# Altium footprint library CYUSB3314.PcbLib: 32 footprints (part 2 of 2)
Each footprint in its own frame and in the unit in brackets; x right, y up, seen from the top. Pads: shape width x height; smd on the part's side, far side on the other; paste and mask are expansions set on the pad; w line width, h text height; cw(c..) or ccw(c..) is an arc to the next point about the centre after c.
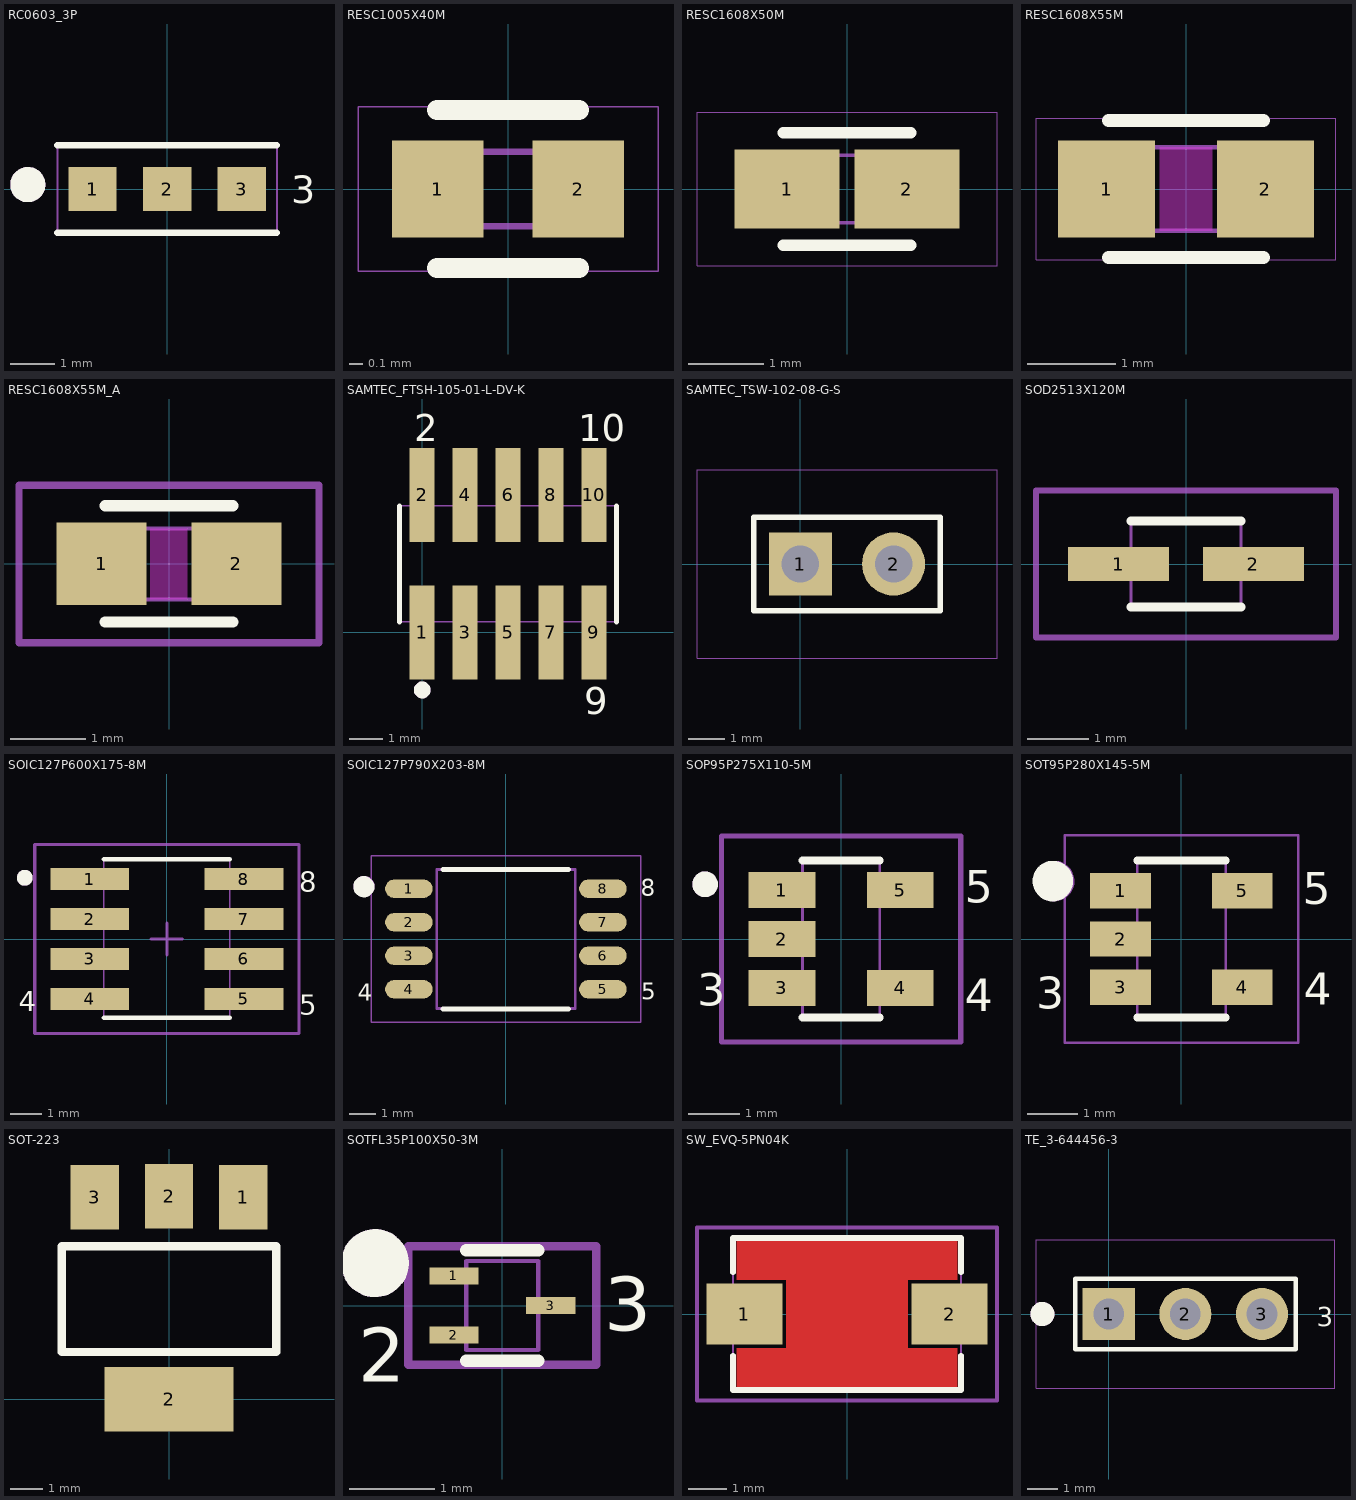
[diagram p1: the footprints below, top view; thin cyan lines are the x and y axes]

## RC0603_3P [mm]
height 2.388
pads (3):
  rect 1.1x1 smd mask+0.079: 1(-1.7,0) 2(0,0) 3(1.7,0)
Top Overlay:
  circle w0.4: c-3.175,0.1 r0.2
  lines w0.15: -2.5,-1 2.5,-1 ; -2.5,1 2.5,1
  text ".Designator" at -2.5,2 h0.64
  text "3" at 2.825,-0.325 h0.64
Mechanical 13:
  circle w0.4: c-3.175,0.1 r0.2
  lines w0.05: -2.5,-1 -2.5,1 2.5,1 2.5,-1 -2.5,-1
  text ".Designator" at -2.5,0 h0.64
Mechanical 14:
  text "RC0603_3P" at -2.5,3 h0.64
3D body: height 0, standoff 0, extent -2.499,-0.999 2.499,0.999

## RESC1005X40M [mm]
height 0.4
pads (2):
  rect 0.68x0.72 smd mask+0: 1(-0.52,0) 2(0.52,0)
Top Overlay:
  lines w0.15: -0.525,-0.585 0.525,-0.585 ; -0.525,0.585 0.525,0.585
  text ".Designator" at -4.117,1.111 h0.8
Mechanical 13:
  lines w0.05: -0.525,-0.275 -0.525,0.275 0.525,0.275 0.525,-0.275 -0.525,-0.275
  text ".Designator" at -3.929,-2.074 h0.8
Mechanical 14:
  text "RESC1005X40M" at -4.558,2.35 h0.8
  text "R68_72" at -2.332,-1.954 h0.8
Mechanical 15:
  lines w0.01: -1.11,-0.61 -1.11,0.61 1.11,0.61 1.11,-0.61 -1.11,-0.61
3D body: height 0.4, standoff 0, extent -0.55,-0.3 0.55,0.3

## RESC1608X50M [mm] "Chip Resistor, 2-Leads, Body 1.5x0.8mm, IPC Low Density"
height 0.5
pads (2):
  rect 1.4x1.05 smd mask+0: 1(-0.8,0) 2(0.8,0)
Top Overlay:
  lines w0.15: -0.85,-0.75 0.85,-0.75 ; -0.85,0.75 0.85,0.75
  text ".Designator" at -3.98,1.71 h0.8
Mechanical 13:
  lines w0.05: -0.85,-0.45 0.85,-0.45 0.85,0.45 -0.85,0.45 -0.85,-0.45
  text ".Designator" at -4.146,-0.319 h0.8
Mechanical 14:
  text "RESC1608X50M" at -4.13,2.972 h0.8
  text "R105_140" at -2.942,-2.822 h0.8
Mechanical 15:
  lines w0.01: -2,-1.025 2,-1.025 2,1.025 -2,1.025 -2,-1.025
3D body: height 0.5, standoff 0, extent -0.85,-0.45 0.85,0.45

## RESC1608X55M [mm]
height 0.55
pads (2):
  rect 1.1x1.1 smd mask+0: 1(-0.9,0) 2(0.9,0)
Top Layer keep-out:
  rectangle: -0.3,-0.475 0.3,0.475
Top Overlay:
  lines w0.15: -0.875,-0.775 0.875,-0.775 ; -0.875,0.775 0.875,0.775
  text ".Designator" at -3.93,1.311 h0.8
Mechanical 13:
  lines w0.05: -0.875,-0.475 -0.875,0.475 0.875,0.475 0.875,-0.475 -0.875,-0.475
  text ".Designator" at -4.025,-0.209 h0.8
Mechanical 14:
  text "RESC1608X55M" at -4.531,2.562 h0.8
  text "S110" at -1.175,-1.998 h0.8
Mechanical 15:
  lines w0.01: -1.7,-0.8 -1.7,0.8 1.7,0.8 1.7,-0.8 -1.7,-0.8
3D body: height 0.55, standoff 0, extent -0.874,-0.474 0.874,0.474

## RESC1608X55M_A [mm]
height 0.55
pads (2):
  rect 1.2x1.1 smd mask+0: 1(-0.9,0) 2(0.9,0)
Top Layer keep-out:
  rectangle: -0.25,-0.475 0.25,0.475
Top Overlay:
  lines w0.15: -0.85,-0.775 0.85,-0.775 ; -0.85,0.775 0.85,0.775
  text ".Designator" at -4.086,1.532 h0.8
Mechanical 13:
  lines w0.05: -0.85,-0.475 0.85,-0.475 0.85,0.475 -0.85,0.475 -0.85,-0.475
  text ".Designator" at -4.122,-0.16 h0.8
Mechanical 14:
  text "R120_110" at -2.781,-2.431 h0.8
  text "RESC1608X55M_A" at -5.021,2.642 h0.8
Mechanical 15:
  lines w0.1: -2,-1.05 2,-1.05 2,1.05 -2,1.05 -2,-1.05
3D body: height 0.55, standoff 0, extent -0.85,-0.475 0.85,0.475

## SAMTEC_FTSH-105-01-L-DV-K [mm]
height 5.715
pads (10):
  rect 0.74x2.79 smd mask+0: 1(0,0) 2(0,4.07) 3(1.27,0) 4(1.27,4.07) 5(2.54,0) 6(2.54,4.07) 7(3.81,0) 8(3.81,4.07) 9(5.08,0) 10(5.08,4.07)
Top Overlay:
  circle w0.25: c0.002,-1.702 r0.125
  lines w0.152: -0.673,0.318 -0.673,3.746 ; 5.753,0.318 5.753,3.746
  text ".Designator" at -1.346,6.782 h0.8
  text "2" at -0.229,5.664 h0.8
  text "9" at 4.801,-2.413 h0.8
  text "10" at 4.623,5.664 h0.8
Mechanical 13:
  circle w0.25: c0.002,-1.702 r0.125
  lines w0.051: -0.673,0.318 5.753,0.318 5.753,3.746 -0.673,3.746 -0.673,0.318
  text ".Designator" at -1.595,1.916 h0.8
Mechanical 14:
  text "R74_279" at -0.178,-3.531 h0.8
  text "SAMTEC_FTSH-105-01-L-DV-K" at -6.401,8.077 h0.8
3D body: height 5.71, standoff 0, extent -0.673,0.318 5.753,3.746

## SAMTEC_TSW-102-08-G-S [mm]
height 8.382
pads (2):
  rect 1.72x1.72 / inner round 1.524 / far side round 1.524 hole 1.02 mask+0: 1(0,0)
  round 1.72 / inner round 1.524 / far side round 1.524 hole 1.02 mask+0: 2(2.54,0)
Top Overlay:
  lines w0.152: -1.27,-1.27 -1.27,1.27 3.81,1.27 3.81,-1.27 -1.27,-1.27
  text ".Designator" at -2.624,2.948 h0.8
Mechanical 13:
  lines w0.051: -1.27,-1.27 -1.27,1.27 3.81,1.27 3.81,-1.27 -1.27,-1.27
  text ".Designator" at -2.967,-0.239 h0.8
Mechanical 14:
  text "S172H102" at -1.161,-4.911 h0.8
  text "C172H102" at -1.159,-3.674 h0.8
  text "SAMTEC_TSW-102-08-G-S" at -5.909,4.204 h0.8
Mechanical 15:
  lines w0.025: -2.819,-2.565 5.359,-2.565 5.359,2.565 -2.819,2.565 -2.819,-2.565
3D body: height 8.38, standoff 0, extent -1.295,-1.295 3.835,1.295

## SOD2513X120M [mm] "SOIC, 2-Leads, Body 1.4x1.8mm (max), Pitch 1.27mm, IPC Low Density"
height 1.2
pads (2):
  rect 1.65x0.55 smd mask+0: 1(-1.1,0) 2(1.1,0)
Top Overlay:
  lines w0.15: -0.9,-0.7 0.9,-0.7 ; -0.9,0.7 0.9,0.7
  text ".Designator" at -3.1,1.6 h0.64
Mechanical 13:
  lines w0.05: -0.9,-0.7 -0.9,0.7 0.9,0.7 0.9,-0.7 -0.9,-0.7
  text ".Designator" at -3.1,-0.2 h0.64
Mechanical 14:
  text "SOD2513X120M" at -3.6,3 h0.64
Mechanical 15:
  lines w0.1: -2.45,-1.2 -2.45,1.2 2.45,1.2 2.45,-1.2 -2.45,-1.2
3D body: height 1.2, standoff 0.1, extent -0.9,-0.7 0.9,0.7

## SOIC127P600X175-8M [mm] "SOIC, 8-Leads, Body 5.0x4.0mm (max), Pitch 1.27mm, IPC Low Density"
height 1.75
pads (8):
  rect 2.5x0.7 smd mask+0: 1(-2.45,1.905) 2(-2.45,0.635) 3(-2.45,-0.635) 4(-2.45,-1.905) 5(2.45,-1.905) 6(2.45,-0.635) 7(2.45,0.635) 8(2.45,1.905)
Top Overlay:
  circle w0.25: c-4.516,1.945 r0.125
  lines w0.15: -2,-2.5 2,-2.5 ; -2,2.532 2,2.532
  text ".Designator" at -3.865,3.628 h0.8
  text "4" at -4.7,-2.3 h0.64
  text "5" at 4.2,-2.4 h0.64
  text "8" at 4.2,1.5 h0.64
Mechanical 13:
  circle w0.25: c-4.516,1.946 r0.125
  lines w0.05: -2,-2.5 2,-2.5 2,2.5 -2,2.5 -2,-2.5
  text ".Designator" at -3.7,-0.2 h0.8
Mechanical 14:
  text "SOIC127P600X175-8M" at -6.556,4.864 h0.8
  text "R250_70" at -2.893,-4.166 h0.8
Mechanical 15:
  lines w0.1: -0.5,0 0.5,0 ; 0,-0.5 0,0.5 ; -4.2,-3 4.2,-3 4.2,3 -4.2,3 -4.2,-3
3D body: height 1.75, standoff 0.1, extent -2,-2.5 2,2.5

## SOIC127P790X203-8M [mm] "SOIC, 8-Leads, Body 5.3x5.3mm (max), Pitch 1.27mm, IPC Low Density"
height 2.03
pads (8):
  oval 1.8x0.7 smd mask+0: 1(-3.675,1.905) 2(-3.675,0.635) 3(-3.675,-0.635) 4(-3.675,-1.905) 5(3.675,-1.905) 6(3.675,-0.635) 7(3.675,0.635) 8(3.675,1.905)
Top Overlay:
  circle w0.4: c-5.38,1.981 r0.2
  lines w0.2: -2.375,-2.65 2.375,-2.65 ; -2.375,2.63 2.375,2.63
  text "8" at 5.111,1.628 h0.64
  text "5" at 5.126,-2.305 h0.64
  text "4" at -5.601,-2.337 h0.64
  text ".Designator" at -3.277,3.683 h0.64
Mechanical 13:
  circle w0.4: c-5.373,1.988 r0.2
  lines w0.1: -2.625,-2.63 2.625,-2.63 2.625,2.63 -2.625,2.63 -2.625,-2.63
  text ".Designator" at -2.886,-0.261 h0.64
Mechanical 14:
  text "B70_180" at -2.445,-4.893 h0.64
  text "SOIC127P790X203-8M" at -5.08,4.953 h0.64
Mechanical 15:
  lines w0.05: -5.1,-3.15 5.1,-3.15 5.1,3.15 -5.1,3.15 -5.1,-3.15
3D body: height 2.03, standoff 0.15, extent -2.625,-2.63 2.625,2.63

## SOP95P275X110-5M [mm] "SOT23, 5-Leads, Body 3.0x3.0mm (max), Pitch 0.95mm, IPC Low Density"
height 1.1
pads (5):
  rect 1.3x0.7 smd mask+0: 1(-1.15,0.95) 2(-1.15,0) 3(-1.15,-0.95) 4(1.15,-0.95) 5(1.15,0.95)
Top Overlay:
  circle w0.25: c-2.641,1.062 r0.125
  lines w0.15: -0.75,-1.525 0.75,-1.525 ; -0.75,1.525 0.75,1.525
  text ".Designator" at -4.374,2.471 h0.8
  text "3" at -2.8,-1.3 h0.63
  text "4" at 2.4,-1.4 h0.63
  text "5" at 2.4,0.7 h0.63
Mechanical 13:
  circle w0.25: c-2.641,1.062 r0.125
  lines w0.05: -0.75,-1.5 -0.75,1.5 0.75,1.5 0.75,-1.5 -0.75,-1.5
  text ".Designator" at -4.374,-0.183 h0.8
Mechanical 14:
  text "SOP95P275X110-5M" at -6.246,3.825 h0.8
  text "R130_70" at -2.653,-3.368 h0.8
Mechanical 15:
  lines w0.1: -2.325,-2 -2.325,2 2.325,2 2.325,-2 -2.325,-2
3D body: height 1.1, standoff 0.01, extent -0.75,-1.5 0.75,1.5

## SOT95P280X145-5M [mm] "SOT23, 5-Leads, Body 3.1x2.8mm (max), Pitch 0.95mm, IPC Low Density"
height 1.45
pads (5):
  rect 1.2x0.7 smd mask+0: 1(-1.2,0.95) 2(-1.2,0) 3(-1.2,-0.95) 4(1.2,-0.95) 5(1.2,0.95)
Top Overlay:
  circle w0.4: c-2.537,1.143 r0.2
  lines w0.152: -0.875,-1.55 0.875,-1.55 ; -0.875,1.55 0.875,1.55
  text "5" at 2.388,0.686 h0.64
  text "4" at 2.413,-1.295 h0.64
  text "3" at -2.87,-1.372 h0.64
  text ".Designator" at -2.979,2.54 h0.64
Mechanical 13:
  lines w0.05: -0.875,-1.55 0.875,-1.55 0.875,1.55 -0.875,1.55 -0.875,-1.55
  lines w0.4: -2.311,1.143 cw(c-2.511,1.143) -2.312,1.154
  text ".Designator" at -3.191,-0.261 h0.64
Mechanical 14:
  text "R70_120" at -1.981,-3.353 h0.64
  text "SOT95P280X145-5M" at -6.02,3.988 h0.8
Mechanical 15:
  lines w0.05: -2.3,-2.05 2.3,-2.05 2.3,2.05 -2.3,2.05 -2.3,-2.05
3D body: height 1.45, standoff 0.15, extent -0.875,-1.55 0.875,1.55

## SOT-223 [mm] "TSOP, 44-Leads, Body 18.4x10.2mm (max), Pitch 0.80mm, IPC Mediu"
height 12.75
pads (4):
  rect 1.5x2 smd: 1(2.3,6.275) 2(0,6.3) 3(-2.3,6.275)
  rect 4x2 smd: 2(0,0)
Top Overlay:
  lines w0.254: -3.325,1.475 -3.325,4.75 3.325,4.75 3.325,1.475 -3.325,1.475
3D body: height 1.72, standoff 0.02, extent -3.199,-0.356 3.301,6.535

## SOTFL35P100X50-3M [mm]
height 0.5
pads (3):
  rect 0.58x0.2 smd mask+0: 1(-0.57,0.35) 2(-0.57,-0.35) 3(0.57,0)
Top Overlay:
  circle w0.4: c-1.5,0.5 r0.2
  lines w0.15: -0.425,-0.65 0.425,-0.65 ; -0.425,0.65 0.425,0.65
  text "3" at 1.2,-0.3 h0.64
  text "2" at -1.7,-0.9 h0.64
  text ".Designator" at -4.013,1.196 h0.8
Mechanical 13:
  circle w0.4: c-1.5,0.5 r0.2
  lines w0.05: -0.425,-0.525 -0.425,0.525 0.425,0.525 0.425,-0.525 -0.425,-0.525
  text ".Designator" at -4,-0.4 h0.8
Mechanical 14:
  text "R58_20" at -2.667,-1.956 h0.8
  text "SOTFL35P100X50-3M" at -6.8,2.2 h0.8
Mechanical 15:
  lines w0.1: -1.11,-0.7 -1.11,0.7 1.11,0.7 1.11,-0.7 -1.11,-0.7
3D body: height 0.5, standoff 0, extent -0.45,-0.55 0.45,0.55

## SW_EVQ-5PN04K [mm]
height 4.3
pads (2):
  rect 2x1.6 smd mask+0: 1(-2.7,0) 2(2.7,0)
Top Layer:
  region: -2.9,2 -2.9,0.9 -1.6,0.9 -1.6,-0.9 -2.9,-0.9 -2.9,-2 2.9,-2 2.9,-0.9 1.6,-0.9 1.6,0.9 2.9,0.9 2.9,2
Top Overlay:
  lines w0.15: -3,-1.1 -3,-2 3,-2 3,-1.1 ; -3,1.1 -3,2 3,2 3,1.1
  text ".Designator" at -3.957,2.767 h0.8
Mechanical 13:
  lines w0.05: -3,-2 -3,2 3,2 3,-2 -3,-2
  text ".Designator" at -3.706,-0.27 h0.8
Mechanical 14:
  text "SW_EVQ-5PN04K" at -4.7,4.125 h0.8
  text "R200_160" at -3.025,-3.4 h0.8
Mechanical 15:
  lines w0.1: -3.95,-2.275 3.95,-2.275 3.95,2.275 -3.95,2.275 -3.95,-2.275
3D body: height 4.3, standoff 0, extent -2.999,-1.999 2.999,1.999

## TE_3-644456-3 [mil]
height 405
pads (3):
  rect 68x68 / inner round 60 / far side round 60 hole 40 mask+0: 1(0,0)
  round 68 / inner round 60 / far side round 60 hole 40 mask+0: 2(100,0) 3(200,0)
Top Overlay:
  circle w15.75: c-86.61,0 r7.87
  lines w6: -44,-46 -44,46 244,46 244,-46 -44,-46
  text ".Designator" at -53.61,119.3 h31.5
  text "3" at 271.65,-15.75 h25
Mechanical 13:
  circle w15.75: c-86.61,0 r7.87
  lines w2: -44,-46 244,-46 244,46 -44,46 -44,-46
  text ".Designator" at -58.55,-3.31 h31.5
Mechanical 14:
  text "C172H102" at 7.7,-146.12 h31.5
  text "TE_3-644456-3" at -97.78,172.86 h31.5
  text "S172H102" at 7.7,-194.12 h31.5
Mechanical 15:
  lines w1: -95,-97 -95,97 295,97 295,-97 -95,-97
3D body: height 405, standoff 0, extent -45,-47 245,47